# EAGLE library part PINHD-2X3 (library my_pinhead)
PIN HEADER
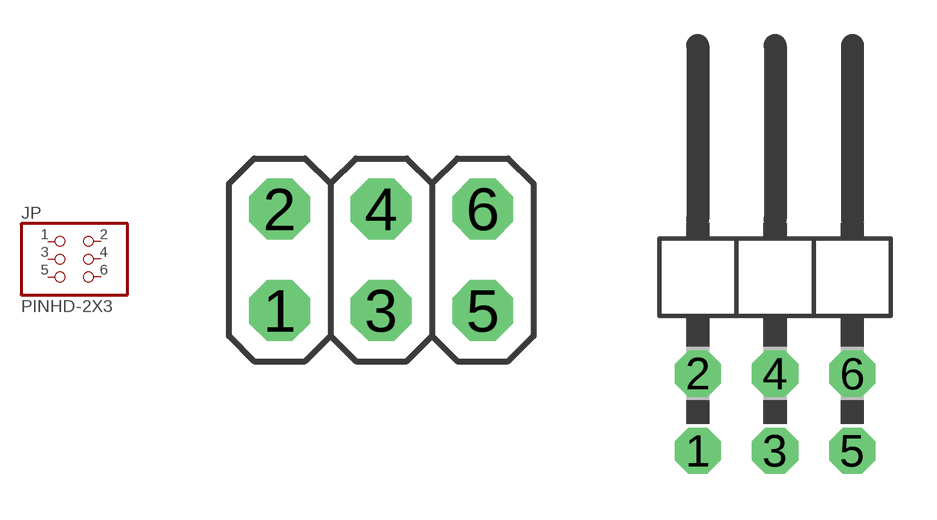
[diagram p33: symbol with the pads of 2X03; footprints 2X03, 2X03/90]

Designator prefix JP

## PINHD-2X3  [2X03]
1  1  pas
2  2  pas
3  3  pas
4  4  pas
5  5  pas
6  6  pas

## PINHD-2X3/90  [2X03/90]
Pads as for 2X03

## Footprint 2X03 (pad centres in mm)
PIN HEADER
drill 1.016 octagon: 1 -2.54,-1.27; 2 -2.54,1.27; 3 0,-1.27; 4 0,1.27; 5 2.54,-1.27; 6 2.54,1.27

## Footprint 2X03/90 (pad centres in mm)
PIN HEADER
drill 1.016 octagon: 1 -2.54,-6.35; 2 -2.54,-3.81; 3 0,-6.35; 4 0,-3.81; 5 2.54,-6.35; 6 2.54,-3.81